# Altium integrated library National Semiconductor Interface.IntLib: 1433 symbols (part 46 of 51)
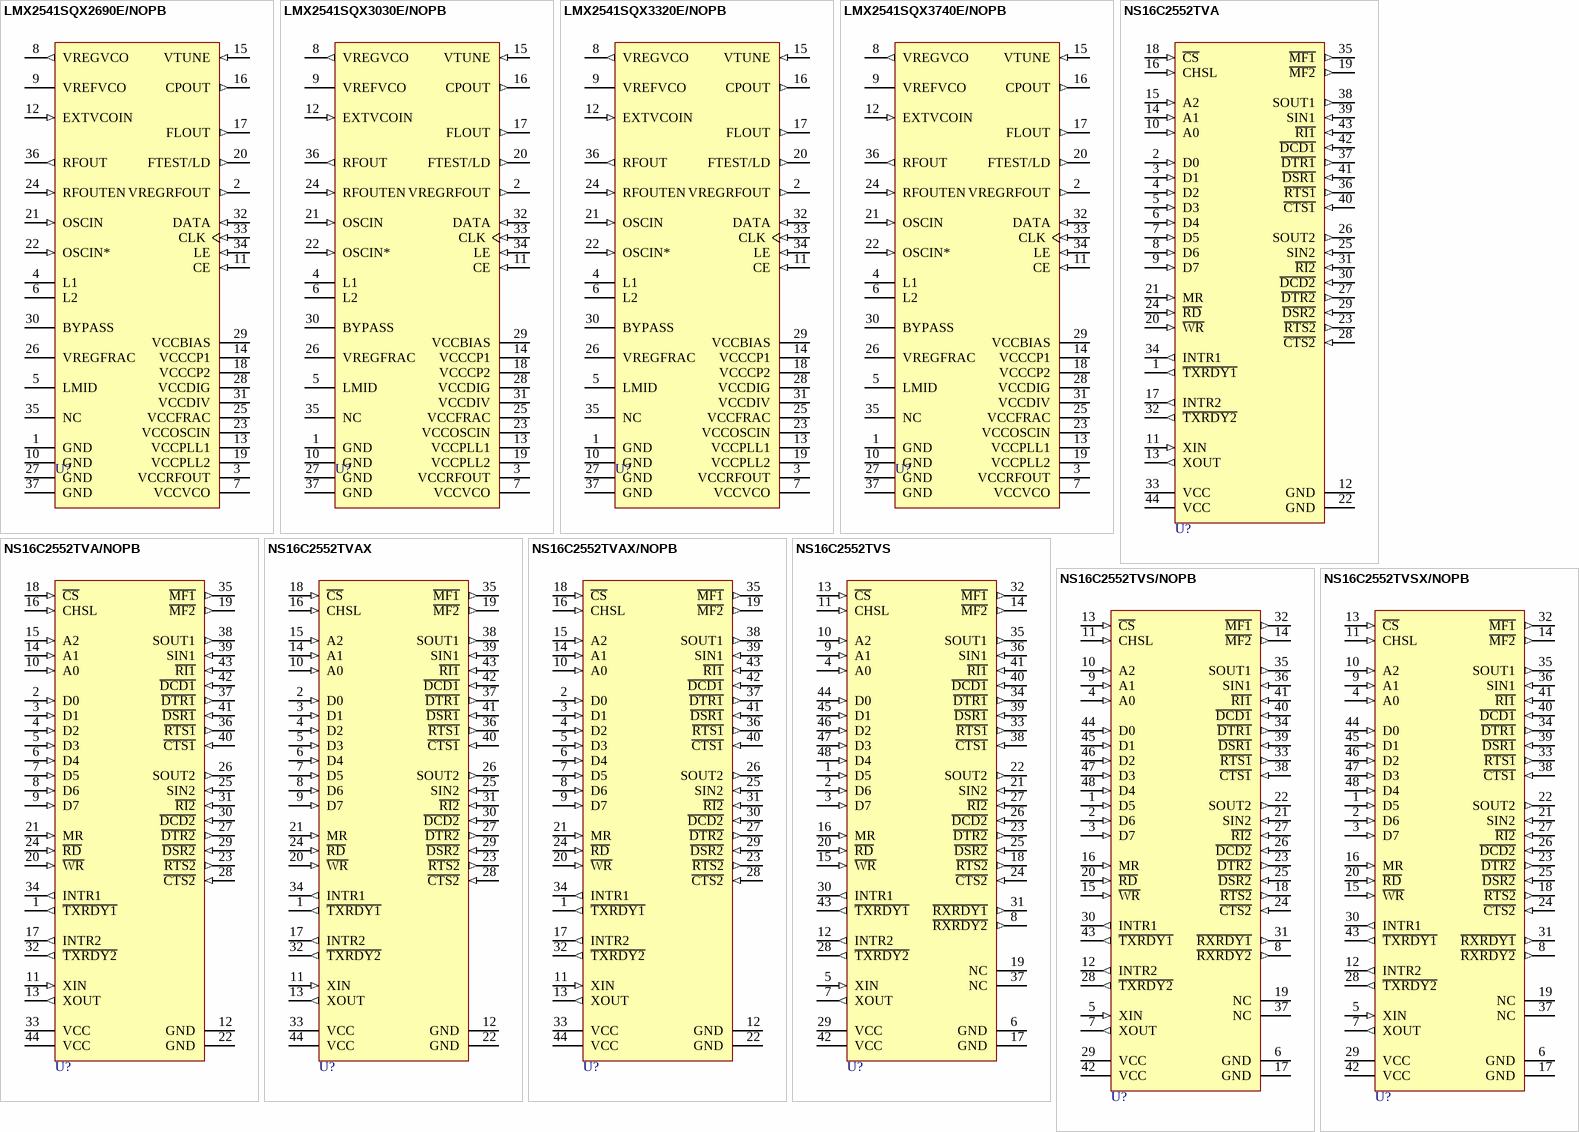
[diagram p169: symbols LMX2541SQX2690E/NOPB to NS16C2552TVSX/NOPB]

## LMX2541SQX3320E/NOPB
designator U?
Ultra-Low Noise PLLatinum Frequency Synthesizer with Integrated VCO, 36-pin LLP, Pb-Free; PartNumber: LMX2541SQX3320E/NOPB; Manufacturer: National Semiconductor; PackageTopMarking: NS*UZXYTTE#*413320E; PowerWise: Y; CompType: Interface IC; DatasheetVersion: Feb-2010; PackageVersion: revA, Jun-2003; PackageReference: SQA36A; PackageDescription: LLP, Plastic, Quad, 6 x 6 x 0.8mm Body, 36 Lead, 0.5mm Pitch, No Pullback; RoHS: Y; PinCount: 36; High-Reliability: Y; ComponentLink1Description: Manufacturer URL; ComponentLink1URL: http://www.national.com/; ComponentLink2Description: LMX2541 Datasheet; ComponentLink2URL: http://www.national.com/ds/LM/LMX2541.pdf; ComponentLink3Description: LMX2541 Web Page; ComponentLink3URL: http://www.national.com/pf/LM/LMX2541.html; ComponentLink4Description: SQA36A Package Page; ComponentLink4URL: http://www.national.com/packaging/folders/sqa36a.html
footprint SQA36A (QFN, 36-Leads, Body 6x6mm, Pitch 0.5mm, Thermal Pad 4.7x4.7mm, NSC Recommended)
pins: 1 GND (power), 2 VREGRFOUT (out), 3 VCCRFOUT (power), 4 L1, 5 LMID, 6 L2, 7 VCCVCO (power), 8 VREGVCO (out), 9 VREFVCO, 10 GND (power), 11 CE (in), 12 EXTVCOIN (in), 13 VCCPLL1, 14 VCCCP1, 15 VTUNE (in), 16 CPOUT (out), 17 FLOUT (out), 18 VCCCP2 (power), 19 VCCPLL2 (power), 20 FTEST/LD (out), 21 OSCIN (in), 22 OSCIN* (in), 23 VCCOSCIN (power), 24 RFOUTEN (in), 25 VCCFRAC (power), 26 VREGFRAC (power), 27 GND (power), 28 VCCDIG (power), 29 VCCBIAS (power), 30 BYPASS, 31 VCCDIV (power), 32 DATA (in), 33 CLK (in), 34 LE (in), 35 NC, 36 RFOUT (out), 37 GND (power)

## LMX2541SQX3740E/NOPB
designator U?
Ultra-Low Noise PLLatinum Frequency Synthesizer with Integrated VCO, 36-pin LLP, Pb-Free; PartNumber: LMX2541SQX3740E/NOPB; Manufacturer: National Semiconductor; PackageTopMarking: NS*UZXYTTE#*413740E; PowerWise: Y; CompType: Interface IC; DatasheetVersion: Feb-2010; PackageVersion: revA, Jun-2003; PackageReference: SQA36A; PackageDescription: LLP, Plastic, Quad, 6 x 6 x 0.8mm Body, 36 Lead, 0.5mm Pitch, No Pullback; RoHS: Y; PinCount: 36; High-Reliability: Y; ComponentLink1Description: Manufacturer URL; ComponentLink1URL: http://www.national.com/; ComponentLink2Description: LMX2541 Datasheet; ComponentLink2URL: http://www.national.com/ds/LM/LMX2541.pdf; ComponentLink3Description: LMX2541 Web Page; ComponentLink3URL: http://www.national.com/pf/LM/LMX2541.html; ComponentLink4Description: SQA36A Package Page; ComponentLink4URL: http://www.national.com/packaging/folders/sqa36a.html
footprint SQA36A (QFN, 36-Leads, Body 6x6mm, Pitch 0.5mm, Thermal Pad 4.7x4.7mm, NSC Recommended)
pins: 1 GND (power), 2 VREGRFOUT (out), 3 VCCRFOUT (power), 4 L1, 5 LMID, 6 L2, 7 VCCVCO (power), 8 VREGVCO (out), 9 VREFVCO, 10 GND (power), 11 CE (in), 12 EXTVCOIN (in), 13 VCCPLL1, 14 VCCCP1, 15 VTUNE (in), 16 CPOUT (out), 17 FLOUT (out), 18 VCCCP2 (power), 19 VCCPLL2 (power), 20 FTEST/LD (out), 21 OSCIN (in), 22 OSCIN* (in), 23 VCCOSCIN (power), 24 RFOUTEN (in), 25 VCCFRAC (power), 26 VREGFRAC (power), 27 GND (power), 28 VCCDIG (power), 29 VCCBIAS (power), 30 BYPASS, 31 VCCDIV (power), 32 DATA (in), 33 CLK (in), 34 LE (in), 35 NC, 36 RFOUT (out), 37 GND (power)

## NS16C2552TVA
designator U?
Dual UART with 16-byte/64-byte FIFO's and up to 5 Mbit/s Data Rate, 44-pin PLCC; PartNumber: NS16C2552TVA; Manufacturer: National Semiconductor; PackageTopMarking: NSUZXYYTTE#*NS16C2552TVA; PowerWise: N; CompType: Interface IC; High-Reliability: Y; DatasheetVersion: Jun-2009; PackageVersion: revK, Dec-1993; PackageReference: V44A; PackageDescription: Plastic Chip Carrier, Sq, .050in Pitch, 44 Lead; RoHS: Y; PinCount: 44; Code_IPC: PLCC-44; ComponentLink1Description: Manufacturer URL; ComponentLink1URL: http://www.national.com/; ComponentLink2Description: NS16C2552 Datasheet; ComponentLink2URL: http://www.national.com/ds/NS/NS16C2552.pdf; ComponentLink3Description: NS16C2552 Web Page; ComponentLink3URL: http://www.national.com/pf/NS/NS16C2552.html; ComponentLink4Description: V44A Package Page; ComponentLink4URL: http://www.national.com/packaging/folders/v44a.html
footprint V44A_N (Leaded Chip Carrier, 44-Leads, Body 16.6x16.6mm, Pitch 1.27mm, IPC Medium Density)
footprint V44A_L (Leaded Chip Carrier, 44-Leads, Body 16.6x16.6mm, Pitch 1.27mm, IPC High Density)
footprint V44A_M (Leaded Chip Carrier, 44-Leads, Body 16.6x16.6mm, Pitch 1.27mm, IPC Low Density)
pins: 1 ~{TXRDY1} (out), 2 D0 (in), 3 D1 (in), 4 D2 (in), 5 D3 (in), 6 D4 (in), 7 D5 (in), 8 D6 (in), 9 D7 (in), 10 A0 (in), 11 XIN (in), 12 GND (power), 13 XOUT (out), 14 A1 (in), 15 A2 (in), 16 CHSL (in), 17 INTR2 (out), 18 ~{CS} (in), 19 ~{MF2} (out), 20 ~{WR} (in), 21 MR (in), 22 GND (power), 23 ~{RTS2} (out), 24 ~{RD} (in), 25 SIN2 (in), 26 SOUT2 (out), 27 ~{DTR2} (out), 28 ~{CTS2} (in), 29 ~{DSR2} (in), 30 ~{DCD2} (in), 31 ~{RI2} (in), 32 ~{TXRDY2} (out), 33 VCC (power), 34 INTR1 (out), 35 ~{MF1} (out), 36 ~{RTS1} (out), 37 ~{DTR1} (out), 38 SOUT1 (out), 39 SIN1 (in), 40 ~{CTS1} (in), 41 ~{DSR1} (in), 42 ~{DCD1} (in), 43 ~{RI1} (in), 44 VCC (power)

## NS16C2552TVA/NOPB
designator U?
Dual UART with 16-byte FIFO and up to 5 Mbit/s Data Rate, 44-pin PLCC, Pb-Free; PartNumber: NS16C2552TVA/NOPB; Manufacturer: National Semiconductor; PackageTopMarking: NSUZXYYTTE#*NS16C2552TVA; PowerWise: N; CompType: Interface IC; High-Reliability: Y; DatasheetVersion: Jun-2009; PackageVersion: revK, Dec-1993; PackageReference: V44A; PackageDescription: Plastic Chip Carrier, Sq, .050in Pitch, 44 Lead; RoHS: Y; PinCount: 44; Code_IPC: PLCC-44; ComponentLink1Description: Manufacturer URL; ComponentLink1URL: http://www.national.com/; ComponentLink2Description: NS16C2552 Datasheet; ComponentLink2URL: http://www.national.com/ds/NS/NS16C2552.pdf; ComponentLink3Description: NS16C2552 Web Page; ComponentLink3URL: http://www.national.com/pf/NS/NS16C2552.html; ComponentLink4Description: V44A Package Page; ComponentLink4URL: http://www.national.com/packaging/folders/v44a.html
footprint V44A_N (Leaded Chip Carrier, 44-Leads, Body 16.6x16.6mm, Pitch 1.27mm, IPC Medium Density)
footprint V44A_L (Leaded Chip Carrier, 44-Leads, Body 16.6x16.6mm, Pitch 1.27mm, IPC High Density)
footprint V44A_M (Leaded Chip Carrier, 44-Leads, Body 16.6x16.6mm, Pitch 1.27mm, IPC Low Density)
pins: 1 ~{TXRDY1} (out), 2 D0 (in), 3 D1 (in), 4 D2 (in), 5 D3 (in), 6 D4 (in), 7 D5 (in), 8 D6 (in), 9 D7 (in), 10 A0 (in), 11 XIN (in), 12 GND (power), 13 XOUT (out), 14 A1 (in), 15 A2 (in), 16 CHSL (in), 17 INTR2 (out), 18 ~{CS} (in), 19 ~{MF2} (out), 20 ~{WR} (in), 21 MR (in), 22 GND (power), 23 ~{RTS2} (out), 24 ~{RD} (in), 25 SIN2 (in), 26 SOUT2 (out), 27 ~{DTR2} (out), 28 ~{CTS2} (in), 29 ~{DSR2} (in), 30 ~{DCD2} (in), 31 ~{RI2} (in), 32 ~{TXRDY2} (out), 33 VCC (power), 34 INTR1 (out), 35 ~{MF1} (out), 36 ~{RTS1} (out), 37 ~{DTR1} (out), 38 SOUT1 (out), 39 SIN1 (in), 40 ~{CTS1} (in), 41 ~{DSR1} (in), 42 ~{DCD1} (in), 43 ~{RI1} (in), 44 VCC (power)

## NS16C2552TVAX
designator U?
Dual UART with 16-byte/64-byte FIFO's and up to 5 Mbit/s Data Rate, 44-pin PLCC; PartNumber: NS16C2552TVAX; Manufacturer: National Semiconductor; PackageTopMarking: NSUZXYYTTE#*NS16C2552TVA*BBBBB; PowerWise: N; CompType: Interface IC; High-Reliability: Y; DatasheetVersion: Jun-2009; PackageVersion: revK, Dec-1993; PackageReference: V44A; PackageDescription: Plastic Chip Carrier, Sq, .050in Pitch, 44 Lead; RoHS: Y; PinCount: 44; Code_IPC: PLCC-44; ComponentLink1Description: Manufacturer URL; ComponentLink1URL: http://www.national.com/; ComponentLink2Description: NS16C2552 Datasheet; ComponentLink2URL: http://www.national.com/ds/NS/NS16C2552.pdf; ComponentLink3Description: NS16C2552 Web Page; ComponentLink3URL: http://www.national.com/pf/NS/NS16C2552.html; ComponentLink4Description: V44A Package Page; ComponentLink4URL: http://www.national.com/packaging/folders/v44a.html
footprint V44A_N (Leaded Chip Carrier, 44-Leads, Body 16.6x16.6mm, Pitch 1.27mm, IPC Medium Density)
footprint V44A_L (Leaded Chip Carrier, 44-Leads, Body 16.6x16.6mm, Pitch 1.27mm, IPC High Density)
footprint V44A_M (Leaded Chip Carrier, 44-Leads, Body 16.6x16.6mm, Pitch 1.27mm, IPC Low Density)
pins: 1 ~{TXRDY1} (out), 2 D0 (in), 3 D1 (in), 4 D2 (in), 5 D3 (in), 6 D4 (in), 7 D5 (in), 8 D6 (in), 9 D7 (in), 10 A0 (in), 11 XIN (in), 12 GND (power), 13 XOUT (out), 14 A1 (in), 15 A2 (in), 16 CHSL (in), 17 INTR2 (out), 18 ~{CS} (in), 19 ~{MF2} (out), 20 ~{WR} (in), 21 MR (in), 22 GND (power), 23 ~{RTS2} (out), 24 ~{RD} (in), 25 SIN2 (in), 26 SOUT2 (out), 27 ~{DTR2} (out), 28 ~{CTS2} (in), 29 ~{DSR2} (in), 30 ~{DCD2} (in), 31 ~{RI2} (in), 32 ~{TXRDY2} (out), 33 VCC (power), 34 INTR1 (out), 35 ~{MF1} (out), 36 ~{RTS1} (out), 37 ~{DTR1} (out), 38 SOUT1 (out), 39 SIN1 (in), 40 ~{CTS1} (in), 41 ~{DSR1} (in), 42 ~{DCD1} (in), 43 ~{RI1} (in), 44 VCC (power)

## NS16C2552TVAX/NOPB
designator U?
Dual UART with 16-byte FIFO and up to 5 Mbit/s Data Rate, 44-pin PLCC, Pb-Free; PartNumber: NS16C2552TVAX/NOPB; Manufacturer: National Semiconductor; PackageTopMarking: NSUZXYYTTE#*NS16C2552TVA*BBBBB; PowerWise: N; CompType: Interface IC; High-Reliability: Y; DatasheetVersion: Jun-2009; PackageVersion: revK, Dec-1993; PackageReference: V44A; PackageDescription: Plastic Chip Carrier, Sq, .050in Pitch, 44 Lead; RoHS: Y; PinCount: 44; Code_IPC: PLCC-44; ComponentLink1Description: Manufacturer URL; ComponentLink1URL: http://www.national.com/; ComponentLink2Description: NS16C2552 Datasheet; ComponentLink2URL: http://www.national.com/ds/NS/NS16C2552.pdf; ComponentLink3Description: NS16C2552 Web Page; ComponentLink3URL: http://www.national.com/pf/NS/NS16C2552.html; ComponentLink4Description: V44A Package Page; ComponentLink4URL: http://www.national.com/packaging/folders/v44a.html
footprint V44A_N (Leaded Chip Carrier, 44-Leads, Body 16.6x16.6mm, Pitch 1.27mm, IPC Medium Density)
footprint V44A_L (Leaded Chip Carrier, 44-Leads, Body 16.6x16.6mm, Pitch 1.27mm, IPC High Density)
footprint V44A_M (Leaded Chip Carrier, 44-Leads, Body 16.6x16.6mm, Pitch 1.27mm, IPC Low Density)
pins: 1 ~{TXRDY1} (out), 2 D0 (in), 3 D1 (in), 4 D2 (in), 5 D3 (in), 6 D4 (in), 7 D5 (in), 8 D6 (in), 9 D7 (in), 10 A0 (in), 11 XIN (in), 12 GND (power), 13 XOUT (out), 14 A1 (in), 15 A2 (in), 16 CHSL (in), 17 INTR2 (out), 18 ~{CS} (in), 19 ~{MF2} (out), 20 ~{WR} (in), 21 MR (in), 22 GND (power), 23 ~{RTS2} (out), 24 ~{RD} (in), 25 SIN2 (in), 26 SOUT2 (out), 27 ~{DTR2} (out), 28 ~{CTS2} (in), 29 ~{DSR2} (in), 30 ~{DCD2} (in), 31 ~{RI2} (in), 32 ~{TXRDY2} (out), 33 VCC (power), 34 INTR1 (out), 35 ~{MF1} (out), 36 ~{RTS1} (out), 37 ~{DTR1} (out), 38 SOUT1 (out), 39 SIN1 (in), 40 ~{CTS1} (in), 41 ~{DSR1} (in), 42 ~{DCD1} (in), 43 ~{RI1} (in), 44 VCC (power)

## NS16C2552TVS
designator U?
Dual UART with 16-byte/64-byte FIFO's and up to 5 Mbit/s Data Rate, 48-pin TQFP; PartNumber: NS16C2552TVS; Manufacturer: National Semiconductor; PackageTopMarking: NSUZXYTT*NS16C2*552TVS; PowerWise: N; CompType: Interface IC; High-Reliability: Y; DatasheetVersion: Jun-2009; PackageVersion: revA, Apr-2000; PackageReference: VBC48A; PackageDescription: TQFP, Jedec Metric, 7 x 7 x 1mm, 48 Lead, 0.5mm Pitch; RoHS: N; PinCount: 48; Code_JEDEC: MS-026-ABC; ComponentLink1Description: Manufacturer URL; ComponentLink1URL: http://www.national.com/; ComponentLink2Description: NS16C2552 Datasheet; ComponentLink2URL: http://www.national.com/ds/NS/NS16C2552.pdf; ComponentLink3Description: NS16C2552 Web Page; ComponentLink3URL: http://www.national.com/pf/NS/NS16C2552.html; ComponentLink4Description: VBC48A Package Page; ComponentLink4URL: http://www.national.com/packaging/folders/vbc48a.html
footprint VBC48A_N (Thin QFP, 48-Leads, Body 7x7mm, Pitch 0.5mm, IPC Medium Density)
footprint VBC48A_L (Thin QFP, 48-Leads, Body 7x7mm, Pitch 0.5mm, IPC High Density)
footprint VBC48A_M (Thin QFP, 48-Leads, Body 7x7mm, Pitch 0.5mm, IPC Low Density)
pins: 1 D5 (in), 2 D6 (in), 3 D7 (in), 4 A0 (in), 5 XIN (in), 6 GND (power), 7 XOUT (out), 8 ~{RXRDY2} (out), 9 A1 (in), 10 A2 (in), 11 CHSL (in), 12 INTR2 (out), 13 ~{CS} (in), 14 ~{MF2} (out), 15 ~{WR} (in), 16 MR (in), 17 GND (power), 18 ~{RTS2} (out), 19 NC, 20 ~{RD} (in), 21 SIN2 (in), 22 SOUT2 (out), 23 ~{DTR2} (out), 24 ~{CTS2} (in), 25 ~{DSR2} (in), 26 ~{DCD2} (in), 27 ~{RI2} (in), 28 ~{TXRDY2} (out), 29 VCC (power), 30 INTR1 (out), 31 ~{RXRDY1} (out), 32 ~{MF1} (out), 33 ~{RTS1} (out), 34 ~{DTR1} (out), 35 SOUT1 (out), 36 SIN1 (in), 37 NC, 38 ~{CTS1} (in), 39 ~{DSR1} (in), 40 ~{DCD1} (in), 41 ~{RI1} (in), 42 VCC (power), 43 ~{TXRDY1} (out), 44 D0 (in), 45 D1 (in), 46 D2 (in), 47 D3 (in), 48 D4 (in)

## NS16C2552TVS/NOPB
designator U?
Dual UART with 16-byte FIFO and up to 5 Mbit/s Data Rate, 48-pin TQFP, Pb-Free; PartNumber: NS16C2552TVS/NOPB; Manufacturer: National Semiconductor; PackageTopMarking: NSUZXYTT*NS16C2*552TVS; PowerWise: N; CompType: Interface IC; High-Reliability: Y; DatasheetVersion: Jun-2009; PackageVersion: revA, Apr-2000; PackageReference: VBC48A; PackageDescription: TQFP, Jedec Metric, 7 x 7 x 1mm, 48 Lead, 0.5mm Pitch; RoHS: Y; PinCount: 48; Code_JEDEC: MS-026-ABC; ComponentLink1Description: Manufacturer URL; ComponentLink1URL: http://www.national.com/; ComponentLink2Description: NS16C2552 Datasheet; ComponentLink2URL: http://www.national.com/ds/NS/NS16C2552.pdf; ComponentLink3Description: NS16C2552 Web Page; ComponentLink3URL: http://www.national.com/pf/NS/NS16C2552.html; ComponentLink4Description: VBC48A Package Page; ComponentLink4URL: http://www.national.com/packaging/folders/vbc48a.html
footprint VBC48A_N (Thin QFP, 48-Leads, Body 7x7mm, Pitch 0.5mm, IPC Medium Density)
footprint VBC48A_L (Thin QFP, 48-Leads, Body 7x7mm, Pitch 0.5mm, IPC High Density)
footprint VBC48A_M (Thin QFP, 48-Leads, Body 7x7mm, Pitch 0.5mm, IPC Low Density)
pins: 1 D5 (in), 2 D6 (in), 3 D7 (in), 4 A0 (in), 5 XIN (in), 6 GND (power), 7 XOUT (out), 8 ~{RXRDY2} (out), 9 A1 (in), 10 A2 (in), 11 CHSL (in), 12 INTR2 (out), 13 ~{CS} (in), 14 ~{MF2} (out), 15 ~{WR} (in), 16 MR (in), 17 GND (power), 18 ~{RTS2} (out), 19 NC, 20 ~{RD} (in), 21 SIN2 (in), 22 SOUT2 (out), 23 ~{DTR2} (out), 24 ~{CTS2} (in), 25 ~{DSR2} (in), 26 ~{DCD2} (in), 27 ~{RI2} (in), 28 ~{TXRDY2} (out), 29 VCC (power), 30 INTR1 (out), 31 ~{RXRDY1} (out), 32 ~{MF1} (out), 33 ~{RTS1} (out), 34 ~{DTR1} (out), 35 SOUT1 (out), 36 SIN1 (in), 37 NC, 38 ~{CTS1} (in), 39 ~{DSR1} (in), 40 ~{DCD1} (in), 41 ~{RI1} (in), 42 VCC (power), 43 ~{TXRDY1} (out), 44 D0 (in), 45 D1 (in), 46 D2 (in), 47 D3 (in), 48 D4 (in)

## NS16C2552TVSX/NOPB
designator U?
Dual UART with 16-byte FIFO and up to 5 Mbit/s Data Rate, 48-pin TQFP, Pb-Free; PartNumber: NS16C2552TVSX/NOPB; Manufacturer: National Semiconductor; PackageTopMarking: NSUZXYTT*NS16C2*552TVS; PowerWise: N; CompType: Interface IC; High-Reliability: Y; DatasheetVersion: Jun-2009; PackageVersion: revA, Apr-2000; PackageReference: VBC48A; PackageDescription: TQFP, Jedec Metric, 7 x 7 x 1mm, 48 Lead, 0.5mm Pitch; RoHS: Y; PinCount: 48; Code_JEDEC: MS-026-ABC; ComponentLink1Description: Manufacturer URL; ComponentLink1URL: http://www.national.com/; ComponentLink2Description: NS16C2552 Datasheet; ComponentLink2URL: http://www.national.com/ds/NS/NS16C2552.pdf; ComponentLink3Description: NS16C2552 Web Page; ComponentLink3URL: http://www.national.com/pf/NS/NS16C2552.html; ComponentLink4Description: VBC48A Package Page; ComponentLink4URL: http://www.national.com/packaging/folders/vbc48a.html
footprint VBC48A_N (Thin QFP, 48-Leads, Body 7x7mm, Pitch 0.5mm, IPC Medium Density)
footprint VBC48A_L (Thin QFP, 48-Leads, Body 7x7mm, Pitch 0.5mm, IPC High Density)
footprint VBC48A_M (Thin QFP, 48-Leads, Body 7x7mm, Pitch 0.5mm, IPC Low Density)
pins: 1 D5 (in), 2 D6 (in), 3 D7 (in), 4 A0 (in), 5 XIN (in), 6 GND (power), 7 XOUT (out), 8 ~{RXRDY2} (out), 9 A1 (in), 10 A2 (in), 11 CHSL (in), 12 INTR2 (out), 13 ~{CS} (in), 14 ~{MF2} (out), 15 ~{WR} (in), 16 MR (in), 17 GND (power), 18 ~{RTS2} (out), 19 NC, 20 ~{RD} (in), 21 SIN2 (in), 22 SOUT2 (out), 23 ~{DTR2} (out), 24 ~{CTS2} (in), 25 ~{DSR2} (in), 26 ~{DCD2} (in), 27 ~{RI2} (in), 28 ~{TXRDY2} (out), 29 VCC (power), 30 INTR1 (out), 31 ~{RXRDY1} (out), 32 ~{MF1} (out), 33 ~{RTS1} (out), 34 ~{DTR1} (out), 35 SOUT1 (out), 36 SIN1 (in), 37 NC, 38 ~{CTS1} (in), 39 ~{DSR1} (in), 40 ~{DCD1} (in), 41 ~{RI1} (in), 42 VCC (power), 43 ~{TXRDY1} (out), 44 D0 (in), 45 D1 (in), 46 D2 (in), 47 D3 (in), 48 D4 (in)

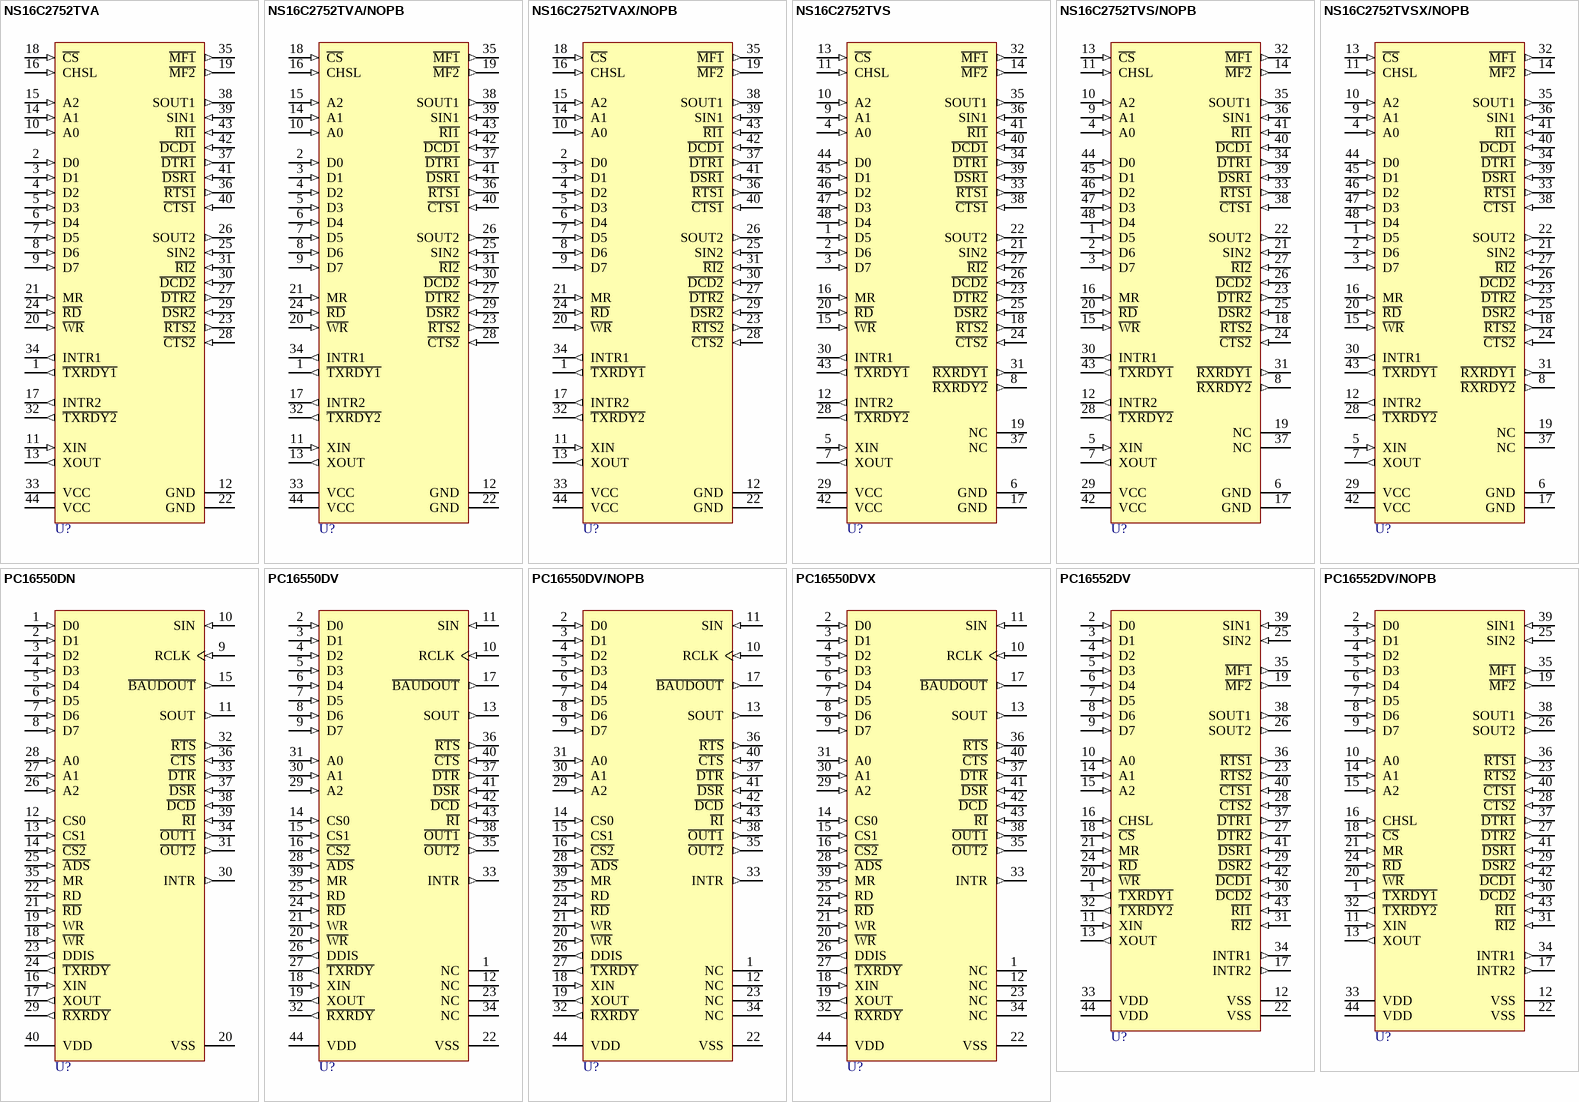
[diagram p111: symbols NS16C2752TVA to PC16552DV/NOPB]

## NS16C2752TVA
designator U?
Dual UART with 16-byte/64-byte FIFO's and up to 5 Mbit/s Data Rate, 44-pin PLCC; PartNumber: NS16C2752TVA; Manufacturer: National Semiconductor; PackageTopMarking: NSUZXYYTTE#*NS16C2752TVA*BBBBB; PowerWise: N; CompType: Interface IC; High-Reliability: Y; DatasheetVersion: Jun-2009; PackageVersion: revK, Dec-1993; PackageReference: V44A; PackageDescription: Plastic Chip Carrier, Sq, .050in Pitch, 44 Lead; RoHS: Y; PinCount: 44; Code_IPC: PLCC-44; ComponentLink1Description: Manufacturer URL; ComponentLink1URL: http://www.national.com/; ComponentLink2Description: NS16C2752 Datasheet; ComponentLink2URL: http://www.national.com/ds/NS/NS16C2552.pdf; ComponentLink3Description: NS16C2752 Web Page; ComponentLink3URL: http://www.national.com/pf/NS/NS16C2752.html; ComponentLink4Description: V44A Package Page; ComponentLink4URL: http://www.national.com/packaging/folders/v44a.html
footprint V44A_N (Leaded Chip Carrier, 44-Leads, Body 16.6x16.6mm, Pitch 1.27mm, IPC Medium Density)
footprint V44A_L (Leaded Chip Carrier, 44-Leads, Body 16.6x16.6mm, Pitch 1.27mm, IPC High Density)
footprint V44A_M (Leaded Chip Carrier, 44-Leads, Body 16.6x16.6mm, Pitch 1.27mm, IPC Low Density)
pins: 1 ~{TXRDY1} (out), 2 D0 (in), 3 D1 (in), 4 D2 (in), 5 D3 (in), 6 D4 (in), 7 D5 (in), 8 D6 (in), 9 D7 (in), 10 A0 (in), 11 XIN (in), 12 GND (power), 13 XOUT (out), 14 A1 (in), 15 A2 (in), 16 CHSL (in), 17 INTR2 (out), 18 ~{CS} (in), 19 ~{MF2} (out), 20 ~{WR} (in), 21 MR (in), 22 GND (power), 23 ~{RTS2} (out), 24 ~{RD} (in), 25 SIN2 (in), 26 SOUT2 (out), 27 ~{DTR2} (out), 28 ~{CTS2} (in), 29 ~{DSR2} (in), 30 ~{DCD2} (in), 31 ~{RI2} (in), 32 ~{TXRDY2} (out), 33 VCC (power), 34 INTR1 (out), 35 ~{MF1} (out), 36 ~{RTS1} (out), 37 ~{DTR1} (out), 38 SOUT1 (out), 39 SIN1 (in), 40 ~{CTS1} (in), 41 ~{DSR1} (in), 42 ~{DCD1} (in), 43 ~{RI1} (in), 44 VCC (power)

## NS16C2752TVA/NOPB
designator U?
Dual UART with 64-byte FIFO and up to 5 Mbit/s Data Rate, 44-pin PLCC, Pb-Free; PartNumber: NS16C2752TVA/NOPB; Manufacturer: National Semiconductor; PackageTopMarking: NSUZXYYTTE#*NS16C2752TVA*BBBBB; PowerWise: N; CompType: Interface IC; High-Reliability: Y; DatasheetVersion: Jun-2009; PackageVersion: revK, Dec-1993; PackageReference: V44A; PackageDescription: Plastic Chip Carrier, Sq, .050in Pitch, 44 Lead; RoHS: Y; PinCount: 44; Code_IPC: PLCC-44; ComponentLink1Description: Manufacturer URL; ComponentLink1URL: http://www.national.com/; ComponentLink2Description: NS16C2752 Datasheet; ComponentLink2URL: http://www.national.com/ds/NS/NS16C2752.pdf; ComponentLink3Description: NS16C2752 Web Page; ComponentLink3URL: http://www.national.com/pf/NS/NS16C2752.html; ComponentLink4Description: V44A Package Page; ComponentLink4URL: http://www.national.com/packaging/folders/v44a.html
footprint V44A_N (Leaded Chip Carrier, 44-Leads, Body 16.6x16.6mm, Pitch 1.27mm, IPC Medium Density)
footprint V44A_L (Leaded Chip Carrier, 44-Leads, Body 16.6x16.6mm, Pitch 1.27mm, IPC High Density)
footprint V44A_M (Leaded Chip Carrier, 44-Leads, Body 16.6x16.6mm, Pitch 1.27mm, IPC Low Density)
pins: 1 ~{TXRDY1} (out), 2 D0 (in), 3 D1 (in), 4 D2 (in), 5 D3 (in), 6 D4 (in), 7 D5 (in), 8 D6 (in), 9 D7 (in), 10 A0 (in), 11 XIN (in), 12 GND (power), 13 XOUT (out), 14 A1 (in), 15 A2 (in), 16 CHSL (in), 17 INTR2 (out), 18 ~{CS} (in), 19 ~{MF2} (out), 20 ~{WR} (in), 21 MR (in), 22 GND (power), 23 ~{RTS2} (out), 24 ~{RD} (in), 25 SIN2 (in), 26 SOUT2 (out), 27 ~{DTR2} (out), 28 ~{CTS2} (in), 29 ~{DSR2} (in), 30 ~{DCD2} (in), 31 ~{RI2} (in), 32 ~{TXRDY2} (out), 33 VCC (power), 34 INTR1 (out), 35 ~{MF1} (out), 36 ~{RTS1} (out), 37 ~{DTR1} (out), 38 SOUT1 (out), 39 SIN1 (in), 40 ~{CTS1} (in), 41 ~{DSR1} (in), 42 ~{DCD1} (in), 43 ~{RI1} (in), 44 VCC (power)

## NS16C2752TVAX/NOPB
designator U?
Dual UART with 64-byte FIFO and up to 5 Mbit/s Data Rate, 44-pin PLCC, Pb-Free; PartNumber: NS16C2752TVAX/NOPB; Manufacturer: National Semiconductor; PackageTopMarking: NSUZXYYTTE#*NS16C2752TVA*BBBBB; PowerWise: N; CompType: Interface IC; High-Reliability: Y; DatasheetVersion: Jun-2009; PackageVersion: revK, Dec-1993; PackageReference: V44A; PackageDescription: Plastic Chip Carrier, Sq, .050in Pitch, 44 Lead; RoHS: Y; PinCount: 44; Code_IPC: PLCC-44; ComponentLink1Description: Manufacturer URL; ComponentLink1URL: http://www.national.com/; ComponentLink2Description: NS16C2752 Datasheet; ComponentLink2URL: http://www.national.com/ds/NS/NS16C2752.pdf; ComponentLink3Description: NS16C2752 Web Page; ComponentLink3URL: http://www.national.com/pf/NS/NS16C2752.html; ComponentLink4Description: V44A Package Page; ComponentLink4URL: http://www.national.com/packaging/folders/v44a.html
footprint V44A_N (Leaded Chip Carrier, 44-Leads, Body 16.6x16.6mm, Pitch 1.27mm, IPC Medium Density)
footprint V44A_L (Leaded Chip Carrier, 44-Leads, Body 16.6x16.6mm, Pitch 1.27mm, IPC High Density)
footprint V44A_M (Leaded Chip Carrier, 44-Leads, Body 16.6x16.6mm, Pitch 1.27mm, IPC Low Density)
pins: 1 ~{TXRDY1} (out), 2 D0 (in), 3 D1 (in), 4 D2 (in), 5 D3 (in), 6 D4 (in), 7 D5 (in), 8 D6 (in), 9 D7 (in), 10 A0 (in), 11 XIN (in), 12 GND (power), 13 XOUT (out), 14 A1 (in), 15 A2 (in), 16 CHSL (in), 17 INTR2 (out), 18 ~{CS} (in), 19 ~{MF2} (out), 20 ~{WR} (in), 21 MR (in), 22 GND (power), 23 ~{RTS2} (out), 24 ~{RD} (in), 25 SIN2 (in), 26 SOUT2 (out), 27 ~{DTR2} (out), 28 ~{CTS2} (in), 29 ~{DSR2} (in), 30 ~{DCD2} (in), 31 ~{RI2} (in), 32 ~{TXRDY2} (out), 33 VCC (power), 34 INTR1 (out), 35 ~{MF1} (out), 36 ~{RTS1} (out), 37 ~{DTR1} (out), 38 SOUT1 (out), 39 SIN1 (in), 40 ~{CTS1} (in), 41 ~{DSR1} (in), 42 ~{DCD1} (in), 43 ~{RI1} (in), 44 VCC (power)

## NS16C2752TVS
designator U?
Dual UART with 16-byte/64-byte FIFO's and up to 5 Mbit/s Data Rate, 48-pin TQFP; PartNumber: NS16C2752TVS; Manufacturer: National Semiconductor; PackageTopMarking: NSUZXYTT*NS16C2*752TVS; PowerWise: N; CompType: Interface IC; High-Reliability: Y; DatasheetVersion: Jun-2009; PackageVersion: revA, Apr-2000; PackageReference: VBC48A; PackageDescription: TQFP, Jedec Metric, 7 x 7 x 1mm, 48 Lead, 0.5mm Pitch; RoHS: N; PinCount: 48; Code_JEDEC: MS-026-ABC; ComponentLink1Description: Manufacturer URL; ComponentLink1URL: http://www.national.com/; ComponentLink2Description: NS16C2752 Datasheet; ComponentLink2URL: http://www.national.com/ds/NS/NS16C2752.pdf; ComponentLink3Description: NS16C2752 Web Page; ComponentLink3URL: http://www.national.com/pf/NS/NS16C2752.html; ComponentLink4Description: VBC48A Package Page; ComponentLink4URL: http://www.national.com/packaging/folders/vbc48a.html
footprint VBC48A_N (Thin QFP, 48-Leads, Body 7x7mm, Pitch 0.5mm, IPC Medium Density)
footprint VBC48A_L (Thin QFP, 48-Leads, Body 7x7mm, Pitch 0.5mm, IPC High Density)
footprint VBC48A_M (Thin QFP, 48-Leads, Body 7x7mm, Pitch 0.5mm, IPC Low Density)
pins: 1 D5 (in), 2 D6 (in), 3 D7 (in), 4 A0 (in), 5 XIN (in), 6 GND (power), 7 XOUT (out), 8 ~{RXRDY2} (out), 9 A1 (in), 10 A2 (in), 11 CHSL (in), 12 INTR2 (out), 13 ~{CS} (in), 14 ~{MF2} (out), 15 ~{WR} (in), 16 MR (in), 17 GND (power), 18 ~{RTS2} (out), 19 NC, 20 ~{RD} (in), 21 SIN2 (in), 22 SOUT2 (out), 23 ~{DTR2} (out), 24 ~{CTS2} (in), 25 ~{DSR2} (in), 26 ~{DCD2} (in), 27 ~{RI2} (in), 28 ~{TXRDY2} (out), 29 VCC (power), 30 INTR1 (out), 31 ~{RXRDY1} (out), 32 ~{MF1} (out), 33 ~{RTS1} (out), 34 ~{DTR1} (out), 35 SOUT1 (out), 36 SIN1 (in), 37 NC, 38 ~{CTS1} (in), 39 ~{DSR1} (in), 40 ~{DCD1} (in), 41 ~{RI1} (in), 42 VCC (power), 43 ~{TXRDY1} (out), 44 D0 (in), 45 D1 (in), 46 D2 (in), 47 D3 (in), 48 D4 (in)

## NS16C2752TVS/NOPB
designator U?
Dual UART with 64-byte FIFO and up to 5 Mbit/s Data Rate, 48-pin TQFP, Pb-Free; PartNumber: NS16C2752TVS/NOPB; Manufacturer: National Semiconductor; PackageTopMarking: NSUZXYTT*NS16C2*752TVS; PowerWise: N; CompType: Interface IC; High-Reliability: Y; DatasheetVersion: Jun-2009; PackageVersion: revA, Apr-2000; PackageReference: VBC48A; PackageDescription: TQFP, Jedec Metric, 7 x 7 x 1mm, 48 Lead, 0.5mm Pitch; RoHS: Y; PinCount: 48; Code_JEDEC: MS-026-ABC; ComponentLink1Description: Manufacturer URL; ComponentLink1URL: http://www.national.com/; ComponentLink2Description: NS16C2752 Datasheet; ComponentLink2URL: http://www.national.com/ds/NS/NS16C2752.pdf; ComponentLink3Description: NS16C2752 Web Page; ComponentLink3URL: http://www.national.com/pf/NS/NS16C2752.html; ComponentLink4Description: VBC48A Package Page; ComponentLink4URL: http://www.national.com/packaging/folders/vbc48a.html
footprint VBC48A_N (Thin QFP, 48-Leads, Body 7x7mm, Pitch 0.5mm, IPC Medium Density)
footprint VBC48A_L (Thin QFP, 48-Leads, Body 7x7mm, Pitch 0.5mm, IPC High Density)
footprint VBC48A_M (Thin QFP, 48-Leads, Body 7x7mm, Pitch 0.5mm, IPC Low Density)
pins: 1 D5 (in), 2 D6 (in), 3 D7 (in), 4 A0 (in), 5 XIN (in), 6 GND (power), 7 XOUT (out), 8 ~{RXRDY2} (out), 9 A1 (in), 10 A2 (in), 11 CHSL (in), 12 INTR2 (out), 13 ~{CS} (in), 14 ~{MF2} (out), 15 ~{WR} (in), 16 MR (in), 17 GND (power), 18 ~{RTS2} (out), 19 NC, 20 ~{RD} (in), 21 SIN2 (in), 22 SOUT2 (out), 23 ~{DTR2} (out), 24 ~{CTS2} (in), 25 ~{DSR2} (in), 26 ~{DCD2} (in), 27 ~{RI2} (in), 28 ~{TXRDY2} (out), 29 VCC (power), 30 INTR1 (out), 31 ~{RXRDY1} (out), 32 ~{MF1} (out), 33 ~{RTS1} (out), 34 ~{DTR1} (out), 35 SOUT1 (out), 36 SIN1 (in), 37 NC, 38 ~{CTS1} (in), 39 ~{DSR1} (in), 40 ~{DCD1} (in), 41 ~{RI1} (in), 42 VCC (power), 43 ~{TXRDY1} (out), 44 D0 (in), 45 D1 (in), 46 D2 (in), 47 D3 (in), 48 D4 (in)

## NS16C2752TVSX/NOPB
designator U?
Dual UART with 64-byte FIFO and up to 5 Mbit/s Data Rate, 48-pin TQFP, Pb-Free; PartNumber: NS16C2752TVSX/NOPB; Manufacturer: National Semiconductor; PackageTopMarking: NSUZXYTT*NS16C2*752TVS; PowerWise: N; CompType: Interface IC; High-Reliability: Y; DatasheetVersion: Jun-2009; PackageVersion: revA, Apr-2000; PackageReference: VBC48A; PackageDescription: TQFP, Jedec Metric, 7 x 7 x 1mm, 48 Lead, 0.5mm Pitch; RoHS: Y; PinCount: 48; Code_JEDEC: MS-026-ABC; ComponentLink1Description: Manufacturer URL; ComponentLink1URL: http://www.national.com/; ComponentLink2Description: NS16C2752 Datasheet; ComponentLink2URL: http://www.national.com/ds/NS/NS16C2752.pdf; ComponentLink3Description: NS16C2752 Web Page; ComponentLink3URL: http://www.national.com/pf/NS/NS16C2752.html; ComponentLink4Description: VBC48A Package Page; ComponentLink4URL: http://www.national.com/packaging/folders/vbc48a.html
footprint VBC48A_N (Thin QFP, 48-Leads, Body 7x7mm, Pitch 0.5mm, IPC Medium Density)
footprint VBC48A_L (Thin QFP, 48-Leads, Body 7x7mm, Pitch 0.5mm, IPC High Density)
footprint VBC48A_M (Thin QFP, 48-Leads, Body 7x7mm, Pitch 0.5mm, IPC Low Density)
pins: 1 D5 (in), 2 D6 (in), 3 D7 (in), 4 A0 (in), 5 XIN (in), 6 GND (power), 7 XOUT (out), 8 ~{RXRDY2} (out), 9 A1 (in), 10 A2 (in), 11 CHSL (in), 12 INTR2 (out), 13 ~{CS} (in), 14 ~{MF2} (out), 15 ~{WR} (in), 16 MR (in), 17 GND (power), 18 ~{RTS2} (out), 19 NC, 20 ~{RD} (in), 21 SIN2 (in), 22 SOUT2 (out), 23 ~{DTR2} (out), 24 ~{CTS2} (in), 25 ~{DSR2} (in), 26 ~{DCD2} (in), 27 ~{RI2} (in), 28 ~{TXRDY2} (out), 29 VCC (power), 30 INTR1 (out), 31 ~{RXRDY1} (out), 32 ~{MF1} (out), 33 ~{RTS1} (out), 34 ~{DTR1} (out), 35 SOUT1 (out), 36 SIN1 (in), 37 NC, 38 ~{CTS1} (in), 39 ~{DSR1} (in), 40 ~{DCD1} (in), 41 ~{RI1} (in), 42 VCC (power), 43 ~{TXRDY1} (out), 44 D0 (in), 45 D1 (in), 46 D2 (in), 47 D3 (in), 48 D4 (in)

## PC16550DN
designator U?
Universal Asynchronous Receiver/Transmitter with FIFO's, 40-pin MDIP; PartNumber: PC16550DN; Manufacturer: National Semiconductor; PackageTopMarking: NSUZXYYTTE#*PC16550DN*PATENTED; PowerWise: N; CompType: Interface IC; High-Reliability: Y; DatasheetVersion: Jun-1995; PackageVersion: revE, Nov-1983; PackageReference: N40A; PackageDescription: 40 Lead Molded Dip (N); RoHS: N; PinCount: 40; ComponentLink1Description: Manufacturer URL; ComponentLink1URL: http://www.national.com/; ComponentLink2Description: PC16550D Datasheet; ComponentLink2URL: http://www.national.com/ds/PC/PC16550D.pdf; ComponentLink3Description: PC16550D Web Page; ComponentLink3URL: http://www.national.com/pf/PC/PC16550D.html; ComponentLink4Description: N40A Package Page; ComponentLink4URL: http://www.national.com/packaging/folders/n40a.html
footprint N40A (DIP, 40-Leads, Row Spacing 15.24mm, Pitch 2.54mm, Body 52.24x13.97mm)
pins: 1 D0 (in), 2 D1 (in), 3 D2 (in), 4 D3 (in), 5 D4 (in), 6 D5 (in), 7 D6 (in), 8 D7 (in), 9 RCLK (in), 10 SIN (in), 11 SOUT (out), 12 CS0 (in), 13 CS1 (in), 14 ~{CS2} (in), 15 ~{BAUDOUT} (out), 16 XIN (in), 17 XOUT (out), 18 ~{WR} (in), 19 WR (in), 20 VSS (power), 21 ~{RD} (in), 22 RD (in), 23 DDIS (out), 24 ~{TXRDY} (out), 25 ~{ADS} (in), 26 A2 (in), 27 A1 (in), 28 A0 (in), 29 ~{RXRDY} (out), 30 INTR (out), 31 ~{OUT2} (out), 32 ~{RTS} (out), 33 ~{DTR} (out), 34 ~{OUT1} (out), 35 MR (in), 36 ~{CTS} (in), 37 ~{DSR} (in), 38 ~{DCD} (in), 39 ~{RI} (in), 40 VDD (power)

## PC16550DV
designator U?
Universal Asynchronous Receiver/Transmitter with FIFO's, 44-pin PLCC; PartNumber: PC16550DV; Manufacturer: National Semiconductor; PackageTopMarking: NSUZXYYTTE#*PC16550DV*PATENTED; PowerWise: N; CompType: Interface IC; High-Reliability: Y; DatasheetVersion: Jun-1995; PackageVersion: revK, Dec-1993; PackageReference: V44A; PackageDescription: Plastic Chip Carrier, Sq, .050in Pitch, 44 Lead; RoHS: N; PinCount: 44; Code_IPC: PLCC-44; ComponentLink1Description: Manufacturer URL; ComponentLink1URL: http://www.national.com/; ComponentLink2Description: PC16550D Datasheet; ComponentLink2URL: http://www.national.com/ds/PC/PC16550D.pdf; ComponentLink3Description: PC16550D Web Page; ComponentLink3URL: http://www.national.com/pf/PC/PC16550D.html; ComponentLink4Description: V44A Package Page; ComponentLink4URL: http://www.national.com/packaging/folders/v44a.html
footprint V44A_N (Leaded Chip Carrier, 44-Leads, Body 16.6x16.6mm, Pitch 1.27mm, IPC Medium Density)
footprint V44A_L (Leaded Chip Carrier, 44-Leads, Body 16.6x16.6mm, Pitch 1.27mm, IPC High Density)
footprint V44A_M (Leaded Chip Carrier, 44-Leads, Body 16.6x16.6mm, Pitch 1.27mm, IPC Low Density)
pins: 1 NC, 2 D0 (in), 3 D1 (in), 4 D2 (in), 5 D3 (in), 6 D4 (in), 7 D5 (in), 8 D6 (in), 9 D7 (in), 10 RCLK (in), 11 SIN (in), 12 NC, 13 SOUT (out), 14 CS0 (in), 15 CS1 (in), 16 ~{CS2} (in), 17 ~{BAUDOUT} (out), 18 XIN (in), 19 XOUT (out), 20 ~{WR} (in), 21 WR (in), 22 VSS (power), 23 NC, 24 ~{RD} (in), 25 RD (in), 26 DDIS (out), 27 ~{TXRDY} (out), 28 ~{ADS} (in), 29 A2 (in), 30 A1 (in), 31 A0 (in), 32 ~{RXRDY} (out), 33 INTR (out), 34 NC, 35 ~{OUT2} (out), 36 ~{RTS} (out), 37 ~{DTR} (out), 38 ~{OUT1} (out), 39 MR (in), 40 ~{CTS} (in), 41 ~{DSR} (in), 42 ~{DCD} (in), 43 ~{RI} (in), 44 VDD (power)

## PC16550DV/NOPB
designator U?
Universal Asynchronous Receiver/Transmitter with FIFO's, 44-pin PLCC, Pb-Free; PartNumber: PC16550DV/NOPB; Manufacturer: National Semiconductor; PackageTopMarking: NSUZXYYTTE#*PC16550DV*PATENTED; PowerWise: N; CompType: Interface IC; High-Reliability: Y; DatasheetVersion: Jun-1995; PackageVersion: revK, Dec-1993; PackageReference: V44A; PackageDescription: Plastic Chip Carrier, Sq, .050in Pitch, 44 Lead; RoHS: Y; PinCount: 44; Code_IPC: PLCC-44; ComponentLink1Description: Manufacturer URL; ComponentLink1URL: http://www.national.com/; ComponentLink2Description: PC16550D Datasheet; ComponentLink2URL: http://www.national.com/ds/PC/PC16550D.pdf; ComponentLink3Description: PC16550D Web Page; ComponentLink3URL: http://www.national.com/pf/PC/PC16550D.html; ComponentLink4Description: V44A Package Page; ComponentLink4URL: http://www.national.com/packaging/folders/v44a.html
footprint V44A_N (Leaded Chip Carrier, 44-Leads, Body 16.6x16.6mm, Pitch 1.27mm, IPC Medium Density)
footprint V44A_L (Leaded Chip Carrier, 44-Leads, Body 16.6x16.6mm, Pitch 1.27mm, IPC High Density)
footprint V44A_M (Leaded Chip Carrier, 44-Leads, Body 16.6x16.6mm, Pitch 1.27mm, IPC Low Density)
pins: 1 NC, 2 D0 (in), 3 D1 (in), 4 D2 (in), 5 D3 (in), 6 D4 (in), 7 D5 (in), 8 D6 (in), 9 D7 (in), 10 RCLK (in), 11 SIN (in), 12 NC, 13 SOUT (out), 14 CS0 (in), 15 CS1 (in), 16 ~{CS2} (in), 17 ~{BAUDOUT} (out), 18 XIN (in), 19 XOUT (out), 20 ~{WR} (in), 21 WR (in), 22 VSS (power), 23 NC, 24 ~{RD} (in), 25 RD (in), 26 DDIS (out), 27 ~{TXRDY} (out), 28 ~{ADS} (in), 29 A2 (in), 30 A1 (in), 31 A0 (in), 32 ~{RXRDY} (out), 33 INTR (out), 34 NC, 35 ~{OUT2} (out), 36 ~{RTS} (out), 37 ~{DTR} (out), 38 ~{OUT1} (out), 39 MR (in), 40 ~{CTS} (in), 41 ~{DSR} (in), 42 ~{DCD} (in), 43 ~{RI} (in), 44 VDD (power)

## PC16550DVX
designator U?
Universal Asynchronous Receiver/Transmitter with FIFO's, 44-pin PLCC; PartNumber: PC16550DVX; Manufacturer: National Semiconductor; PackageTopMarking: NSUZXYYTTE#*PC16550DV*PATENTED; PowerWise: N; CompType: Interface IC; High-Reliability: Y; DatasheetVersion: Jun-1995; PackageVersion: revK, Dec-1993; PackageReference: V44A; PackageDescription: Plastic Chip Carrier, Sq, .050in Pitch, 44 Lead; RoHS: N; PinCount: 44; Code_IPC: PLCC-44; ComponentLink1Description: Manufacturer URL; ComponentLink1URL: http://www.national.com/; ComponentLink2Description: PC16550D Datasheet; ComponentLink2URL: http://www.national.com/ds/PC/PC16550D.pdf; ComponentLink3Description: PC16550D Web Page; ComponentLink3URL: http://www.national.com/pf/PC/PC16550D.html; ComponentLink4Description: V44A Package Page; ComponentLink4URL: http://www.national.com/packaging/folders/v44a.html
footprint V44A_N (Leaded Chip Carrier, 44-Leads, Body 16.6x16.6mm, Pitch 1.27mm, IPC Medium Density)
footprint V44A_L (Leaded Chip Carrier, 44-Leads, Body 16.6x16.6mm, Pitch 1.27mm, IPC High Density)
footprint V44A_M (Leaded Chip Carrier, 44-Leads, Body 16.6x16.6mm, Pitch 1.27mm, IPC Low Density)
pins: 1 NC, 2 D0 (in), 3 D1 (in), 4 D2 (in), 5 D3 (in), 6 D4 (in), 7 D5 (in), 8 D6 (in), 9 D7 (in), 10 RCLK (in), 11 SIN (in), 12 NC, 13 SOUT (out), 14 CS0 (in), 15 CS1 (in), 16 ~{CS2} (in), 17 ~{BAUDOUT} (out), 18 XIN (in), 19 XOUT (out), 20 ~{WR} (in), 21 WR (in), 22 VSS (power), 23 NC, 24 ~{RD} (in), 25 RD (in), 26 DDIS (out), 27 ~{TXRDY} (out), 28 ~{ADS} (in), 29 A2 (in), 30 A1 (in), 31 A0 (in), 32 ~{RXRDY} (out), 33 INTR (out), 34 NC, 35 ~{OUT2} (out), 36 ~{RTS} (out), 37 ~{DTR} (out), 38 ~{OUT1} (out), 39 MR (in), 40 ~{CTS} (in), 41 ~{DSR} (in), 42 ~{DCD} (in), 43 ~{RI} (in), 44 VDD (power)

## PC16552DV
designator U?
Dual Universal Asynchronous Receiver/Transmitter with FIFO's, 44-pin PLCC; PartNumber: PC16552DV; Manufacturer: National Semiconductor; PackageTopMarking: NSUZXYYTTE#*PC16552DV; PowerWise: N; CompType: Interface IC; High-Reliability: Y; DatasheetVersion: Jun-1995; PackageVersion: revK, Dec-1993; PackageReference: V44A; PackageDescription: Plastic Chip Carrier, Sq, .050in Pitch, 44 Lead; RoHS: N; PinCount: 44; Code_IPC: PLCC-44; ComponentLink1Description: Manufacturer URL; ComponentLink1URL: http://www.national.com/; ComponentLink2Description: PC16552D Datasheet; ComponentLink2URL: http://www.national.com/ds/PC/PC16552D.pdf; ComponentLink3Description: PC16552D Web Page; ComponentLink3URL: http://www.national.com/pf/PC/PC16552D.html; ComponentLink4Description: V44A Package Page; ComponentLink4URL: http://www.national.com/packaging/folders/v44a.html
footprint V44A_N (Leaded Chip Carrier, 44-Leads, Body 16.6x16.6mm, Pitch 1.27mm, IPC Medium Density)
footprint V44A_L (Leaded Chip Carrier, 44-Leads, Body 16.6x16.6mm, Pitch 1.27mm, IPC High Density)
footprint V44A_M (Leaded Chip Carrier, 44-Leads, Body 16.6x16.6mm, Pitch 1.27mm, IPC Low Density)
pins: 1 ~{TXRDY1} (out), 2 D0 (in), 3 D1 (in), 4 D2 (in), 5 D3 (in), 6 D4 (in), 7 D5 (in), 8 D6 (in), 9 D7 (in), 10 A0 (in), 11 XIN (in), 12 VSS (power), 13 XOUT (out), 14 A1 (in), 15 A2 (in), 16 CHSL (in), 17 INTR2 (out), 18 ~{CS} (in), 19 ~{MF2} (out), 20 ~{WR} (in), 21 MR (in), 22 VSS (power), 23 ~{RTS2} (out), 24 ~{RD} (in), 25 SIN2 (in), 26 SOUT2 (out), 27 ~{DTR2} (out), 28 ~{CTS2} (in), 29 ~{DSR2} (in), 30 ~{DCD2} (in), 31 ~{RI2} (in), 32 ~{TXRDY2} (out), 33 VDD (power), 34 INTR1 (out), 35 ~{MF1} (out), 36 ~{RTS1} (out), 37 ~{DTR1} (out), 38 SOUT1 (out), 39 SIN1 (in), 40 ~{CTS1} (in), 41 ~{DSR1} (in), 42 ~{DCD1} (in), 43 ~{RI1} (in), 44 VDD (power)

## PC16552DV/NOPB
designator U?
Dual Universal Asynchronous Receiver/Transmitter with FIFO's, 44-pin PLCC, Pb-Free; PartNumber: PC16552DV/NOPB; Manufacturer: National Semiconductor; PackageTopMarking: NSUZXYYTTE#*PC16552DV; PowerWise: N; CompType: Interface IC; High-Reliability: Y; DatasheetVersion: Jun-1995; PackageVersion: revK, Dec-1993; PackageReference: V44A; PackageDescription: Plastic Chip Carrier, Sq, .050in Pitch, 44 Lead; RoHS: Y; PinCount: 44; Code_IPC: PLCC-44; ComponentLink1Description: Manufacturer URL; ComponentLink1URL: http://www.national.com/; ComponentLink2Description: PC16552D Datasheet; ComponentLink2URL: http://www.national.com/ds/PC/PC16552D.pdf; ComponentLink3Description: PC16552D Web Page; ComponentLink3URL: http://www.national.com/pf/PC/PC16552D.html; ComponentLink4Description: V44A Package Page; ComponentLink4URL: http://www.national.com/packaging/folders/v44a.html
footprint V44A_N (Leaded Chip Carrier, 44-Leads, Body 16.6x16.6mm, Pitch 1.27mm, IPC Medium Density)
footprint V44A_L (Leaded Chip Carrier, 44-Leads, Body 16.6x16.6mm, Pitch 1.27mm, IPC High Density)
footprint V44A_M (Leaded Chip Carrier, 44-Leads, Body 16.6x16.6mm, Pitch 1.27mm, IPC Low Density)
pins: 1 ~{TXRDY1} (out), 2 D0 (in), 3 D1 (in), 4 D2 (in), 5 D3 (in), 6 D4 (in), 7 D5 (in), 8 D6 (in), 9 D7 (in), 10 A0 (in), 11 XIN (in), 12 VSS (power), 13 XOUT (out), 14 A1 (in), 15 A2 (in), 16 CHSL (in), 17 INTR2 (out), 18 ~{CS} (in), 19 ~{MF2} (out), 20 ~{WR} (in), 21 MR (in), 22 VSS (power), 23 ~{RTS2} (out), 24 ~{RD} (in), 25 SIN2 (in), 26 SOUT2 (out), 27 ~{DTR2} (out), 28 ~{CTS2} (in), 29 ~{DSR2} (in), 30 ~{DCD2} (in), 31 ~{RI2} (in), 32 ~{TXRDY2} (out), 33 VDD (power), 34 INTR1 (out), 35 ~{MF1} (out), 36 ~{RTS1} (out), 37 ~{DTR1} (out), 38 SOUT1 (out), 39 SIN1 (in), 40 ~{CTS1} (in), 41 ~{DSR1} (in), 42 ~{DCD1} (in), 43 ~{RI1} (in), 44 VDD (power)

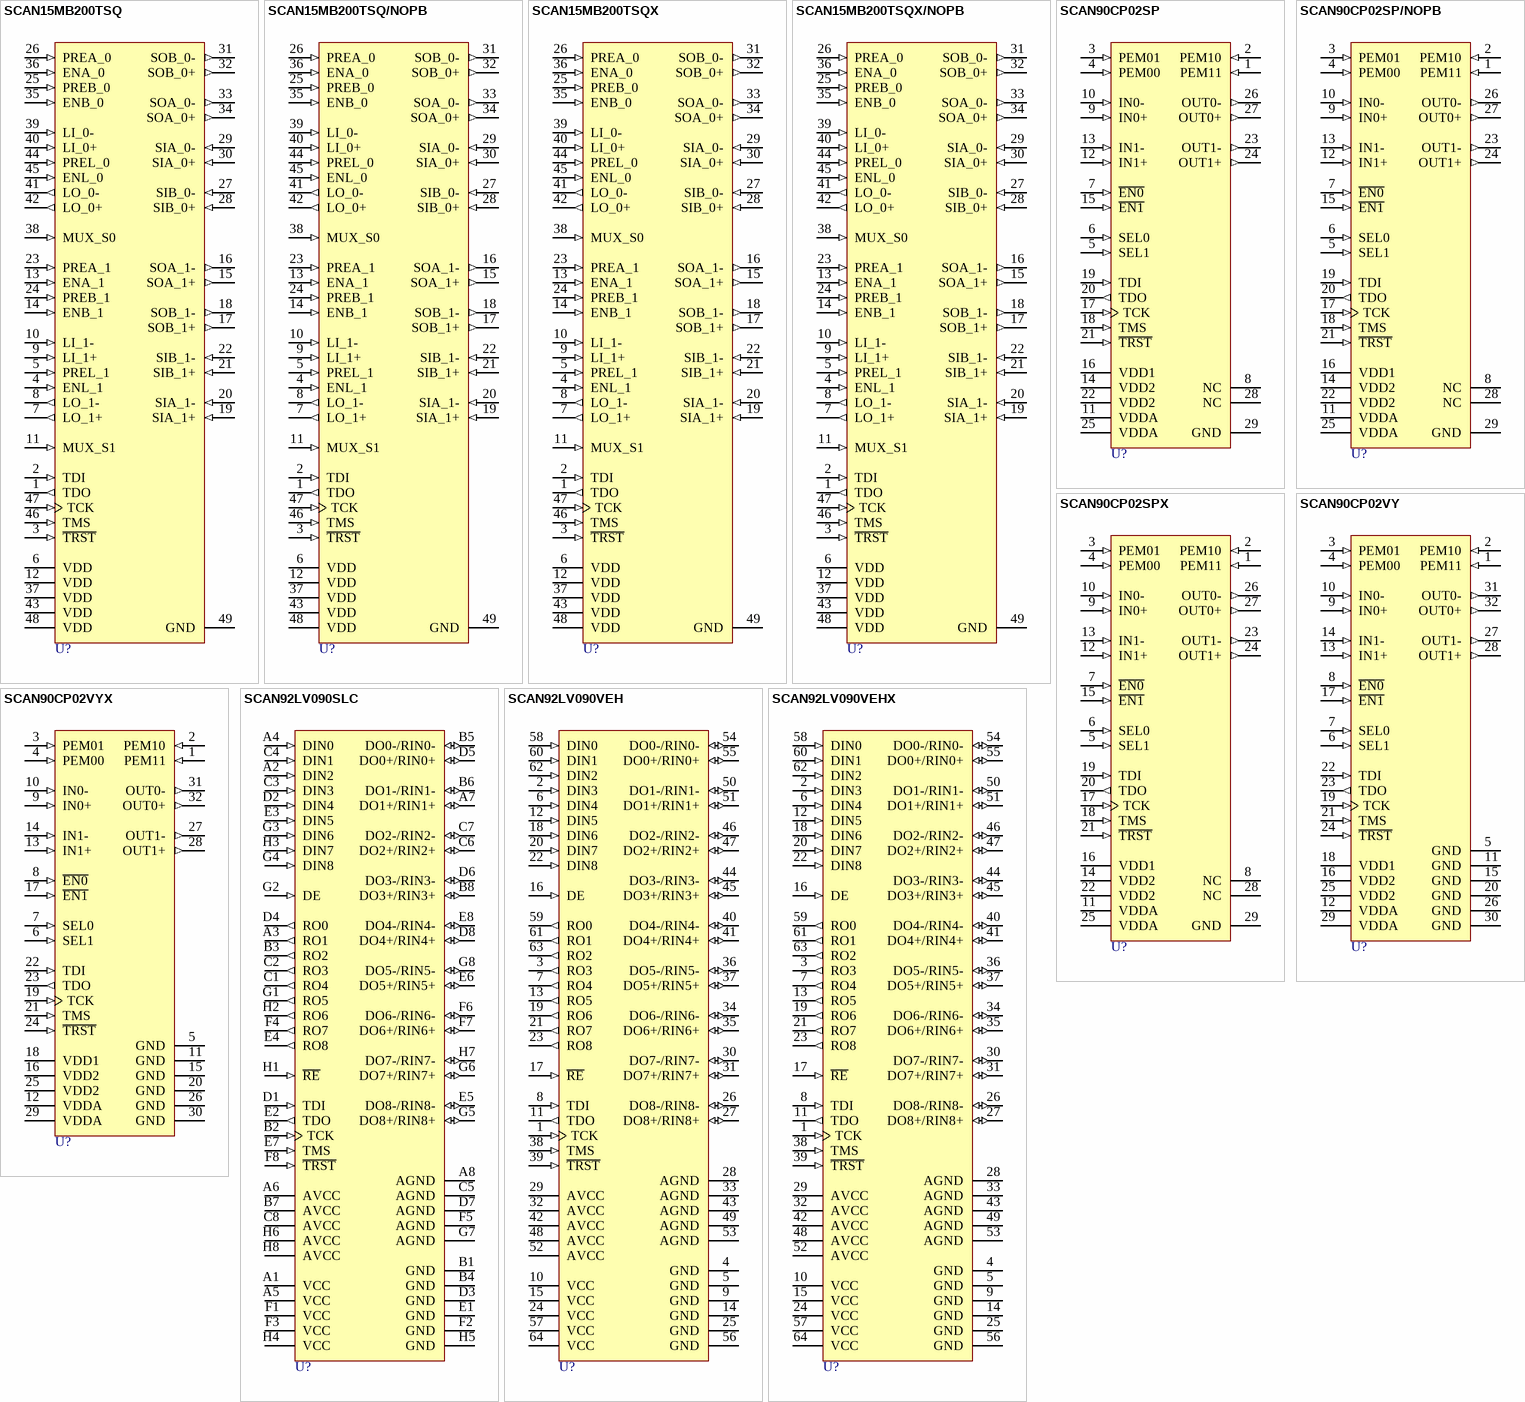
[diagram p112: symbols SCAN15MB200TSQ to SCAN92LV090VEHX]

## SCAN15MB200TSQ
designator U?
Dual 1.5 Gbps 2:1/1:2 LVDS Mux/Buffer with Pre-Emphasis and IEEE 1149.6, 48-pin LLP; PartNumber: SCAN15MB200TSQ; Manufacturer: National Semiconductor; PackageTopMarking: NS*UZXYTTE#*15MB200; PowerWise: N; CompType: Interface IC; High-Reliability: Y; DatasheetVersion: May-2006; PackageVersion: revB, May-2009; PackageReference: SQA48A; PackageDescription: LLP, Plastic, Quad, 7 x 7 x 0.8mm Body, 48 Lead, 0.5mm Pitch, No Pullback; RoHS: N; PinCount: 48; Code_JEDEC: MO-220-WKKD-2; ComponentLink1Description: Manufacturer URL; ComponentLink1URL: http://www.national.com/; ComponentLink2Description: SCAN15MB200 Datasheet; ComponentLink2URL: http://www.national.com/ds/SC/SCAN15MB200.pdf; ComponentLink3Description: SCAN15MB200 Web Page; ComponentLink3URL: http://www.national.com/pf/SC/SCAN15MB200.html; ComponentLink4Description: SQA48A Package Page; ComponentLink4URL: http://www.national.com/packaging/folders/sqa48a.html
footprint SQA48A (QFN, 48-Leads, Body 7x7mm, Pitch 0.5mm, Thermal Pad 5.2x5.2mm, NSC Recommended)
pins: 1 TDO (out), 2 TDI (in), 3 ~{TRST} (in), 4 ENL_1 (in), 5 PREL_1 (in), 6 VDD (power), 7 LO_1+ (out), 8 LO_1- (out), 9 LI_1+ (in), 10 LI_1- (in), 11 MUX_S1 (in), 12 VDD (power), 13 ENA_1 (in), 14 ENB_1 (in), 15 SOA_1+ (out), 16 SOA_1- (out), 17 SOB_1+ (out), 18 SOB_1- (out), 19 SIA_1+ (in), 20 SIA_1- (in), 21 SIB_1+ (in), 22 SIB_1- (in), 23 PREA_1 (in), 24 PREB_1 (in), 25 PREB_0 (in), 26 PREA_0 (in), 27 SIB_0- (in), 28 SIB_0+ (in), 29 SIA_0- (in), 30 SIA_0+ (in), 31 SOB_0- (out), 32 SOB_0+ (out), 33 SOA_0- (out), 34 SOA_0+ (out), 35 ENB_0 (in), 36 ENA_0 (in), 37 VDD (power), 38 MUX_S0 (in), 39 LI_0- (in), 40 LI_0+ (in), 41 LO_0- (out), 42 LO_0+ (out), 43 VDD (power), 44 PREL_0 (in), 45 ENL_0 (in), 46 TMS (in), 47 TCK (in), 48 VDD (power), 49 GND (power)

## SCAN15MB200TSQ/NOPB
designator U?
Dual 1.5 Gbps 2:1/1:2 LVDS Mux/Buffer with Pre-Emphasis and IEEE 1149.6, 48-pin LLP, Pb-Free; PartNumber: SCAN15MB200TSQ/NOPB; Manufacturer: National Semiconductor; PackageTopMarking: NS*UZXYTTE#*15MB200; PowerWise: N; CompType: Interface IC; High-Reliability: Y; DatasheetVersion: May-2006; PackageVersion: revB, May-2009; PackageReference: SQA48A; PackageDescription: LLP, Plastic, Quad, 7 x 7 x 0.8mm Body, 48 Lead, 0.5mm Pitch, No Pullback; RoHS: Y; PinCount: 48; Code_JEDEC: MO-220-WKKD-2; ComponentLink1Description: Manufacturer URL; ComponentLink1URL: http://www.national.com/; ComponentLink2Description: SCAN15MB200 Datasheet; ComponentLink2URL: http://www.national.com/ds/SC/SCAN15MB200.pdf; ComponentLink3Description: SCAN15MB200 Web Page; ComponentLink3URL: http://www.national.com/pf/SC/SCAN15MB200.html; ComponentLink4Description: SQA48A Package Page; ComponentLink4URL: http://www.national.com/packaging/folders/sqa48a.html
footprint SQA48A (QFN, 48-Leads, Body 7x7mm, Pitch 0.5mm, Thermal Pad 5.2x5.2mm, NSC Recommended)
pins: 1 TDO (out), 2 TDI (in), 3 ~{TRST} (in), 4 ENL_1 (in), 5 PREL_1 (in), 6 VDD (power), 7 LO_1+ (out), 8 LO_1- (out), 9 LI_1+ (in), 10 LI_1- (in), 11 MUX_S1 (in), 12 VDD (power), 13 ENA_1 (in), 14 ENB_1 (in), 15 SOA_1+ (out), 16 SOA_1- (out), 17 SOB_1+ (out), 18 SOB_1- (out), 19 SIA_1+ (in), 20 SIA_1- (in), 21 SIB_1+ (in), 22 SIB_1- (in), 23 PREA_1 (in), 24 PREB_1 (in), 25 PREB_0 (in), 26 PREA_0 (in), 27 SIB_0- (in), 28 SIB_0+ (in), 29 SIA_0- (in), 30 SIA_0+ (in), 31 SOB_0- (out), 32 SOB_0+ (out), 33 SOA_0- (out), 34 SOA_0+ (out), 35 ENB_0 (in), 36 ENA_0 (in), 37 VDD (power), 38 MUX_S0 (in), 39 LI_0- (in), 40 LI_0+ (in), 41 LO_0- (out), 42 LO_0+ (out), 43 VDD (power), 44 PREL_0 (in), 45 ENL_0 (in), 46 TMS (in), 47 TCK (in), 48 VDD (power), 49 GND (power)

## SCAN15MB200TSQX
designator U?
Dual 1.5 Gbps 2:1/1:2 LVDS Mux/Buffer with Pre-Emphasis and IEEE 1149.6, 48-pin LLP; PartNumber: SCAN15MB200TSQX; Manufacturer: National Semiconductor; PackageTopMarking: NS*UZXYTT*15MB200; PowerWise: N; CompType: Interface IC; High-Reliability: Y; DatasheetVersion: May-2006; PackageVersion: revB, May-2009; PackageReference: SQA48A; PackageDescription: LLP, Plastic, Quad, 7 x 7 x 0.8mm Body, 48 Lead, 0.5mm Pitch, No Pullback; RoHS: N; PinCount: 48; Code_JEDEC: MO-220-WKKD-2; ComponentLink1Description: Manufacturer URL; ComponentLink1URL: http://www.national.com/; ComponentLink2Description: SCAN15MB200 Datasheet; ComponentLink2URL: http://www.national.com/ds/SC/SCAN15MB200.pdf; ComponentLink3Description: SCAN15MB200 Web Page; ComponentLink3URL: http://www.national.com/pf/SC/SCAN15MB200.html; ComponentLink4Description: SQA48A Package Page; ComponentLink4URL: http://www.national.com/packaging/folders/sqa48a.html
footprint SQA48A (QFN, 48-Leads, Body 7x7mm, Pitch 0.5mm, Thermal Pad 5.2x5.2mm, NSC Recommended)
pins: 1 TDO (out), 2 TDI (in), 3 ~{TRST} (in), 4 ENL_1 (in), 5 PREL_1 (in), 6 VDD (power), 7 LO_1+ (out), 8 LO_1- (out), 9 LI_1+ (in), 10 LI_1- (in), 11 MUX_S1 (in), 12 VDD (power), 13 ENA_1 (in), 14 ENB_1 (in), 15 SOA_1+ (out), 16 SOA_1- (out), 17 SOB_1+ (out), 18 SOB_1- (out), 19 SIA_1+ (in), 20 SIA_1- (in), 21 SIB_1+ (in), 22 SIB_1- (in), 23 PREA_1 (in), 24 PREB_1 (in), 25 PREB_0 (in), 26 PREA_0 (in), 27 SIB_0- (in), 28 SIB_0+ (in), 29 SIA_0- (in), 30 SIA_0+ (in), 31 SOB_0- (out), 32 SOB_0+ (out), 33 SOA_0- (out), 34 SOA_0+ (out), 35 ENB_0 (in), 36 ENA_0 (in), 37 VDD (power), 38 MUX_S0 (in), 39 LI_0- (in), 40 LI_0+ (in), 41 LO_0- (out), 42 LO_0+ (out), 43 VDD (power), 44 PREL_0 (in), 45 ENL_0 (in), 46 TMS (in), 47 TCK (in), 48 VDD (power), 49 GND (power)

## SCAN15MB200TSQX/NOPB
designator U?
Dual 1.5 Gbps 2:1/1:2 LVDS Mux/Buffer with Pre-Emphasis and IEEE 1149.6, 48-pin LLP, Pb-Free; PartNumber: SCAN15MB200TSQX/NOPB; Manufacturer: National Semiconductor; PackageTopMarking: NS*UZXYTT*15MB200; PowerWise: N; CompType: Interface IC; High-Reliability: Y; DatasheetVersion: May-2006; PackageVersion: revB, May-2009; PackageReference: SQA48A; PackageDescription: LLP, Plastic, Quad, 7 x 7 x 0.8mm Body, 48 Lead, 0.5mm Pitch, No Pullback; RoHS: Y; PinCount: 48; Code_JEDEC: MO-220-WKKD-2; ComponentLink1Description: Manufacturer URL; ComponentLink1URL: http://www.national.com/; ComponentLink2Description: SCAN15MB200 Datasheet; ComponentLink2URL: http://www.national.com/ds/SC/SCAN15MB200.pdf; ComponentLink3Description: SCAN15MB200 Web Page; ComponentLink3URL: http://www.national.com/pf/SC/SCAN15MB200.html; ComponentLink4Description: SQA48A Package Page; ComponentLink4URL: http://www.national.com/packaging/folders/sqa48a.html
footprint SQA48A (QFN, 48-Leads, Body 7x7mm, Pitch 0.5mm, Thermal Pad 5.2x5.2mm, NSC Recommended)
pins: 1 TDO (out), 2 TDI (in), 3 ~{TRST} (in), 4 ENL_1 (in), 5 PREL_1 (in), 6 VDD (power), 7 LO_1+ (out), 8 LO_1- (out), 9 LI_1+ (in), 10 LI_1- (in), 11 MUX_S1 (in), 12 VDD (power), 13 ENA_1 (in), 14 ENB_1 (in), 15 SOA_1+ (out), 16 SOA_1- (out), 17 SOB_1+ (out), 18 SOB_1- (out), 19 SIA_1+ (in), 20 SIA_1- (in), 21 SIB_1+ (in), 22 SIB_1- (in), 23 PREA_1 (in), 24 PREB_1 (in), 25 PREB_0 (in), 26 PREA_0 (in), 27 SIB_0- (in), 28 SIB_0+ (in), 29 SIA_0- (in), 30 SIA_0+ (in), 31 SOB_0- (out), 32 SOB_0+ (out), 33 SOA_0- (out), 34 SOA_0+ (out), 35 ENB_0 (in), 36 ENA_0 (in), 37 VDD (power), 38 MUX_S0 (in), 39 LI_0- (in), 40 LI_0+ (in), 41 LO_0- (out), 42 LO_0+ (out), 43 VDD (power), 44 PREL_0 (in), 45 ENL_0 (in), 46 TMS (in), 47 TCK (in), 48 VDD (power), 49 GND (power)

## SCAN90CP02SP
designator U?
1.5 Gbps 2x2 LVDS Crosspoint Switch with Pre-Emphasis and IEEE 1149.6, 28-pin LLP; PartNumber: SCAN90CP02SP; Manufacturer: National Semiconductor; PackageTopMarking: NS*UZXYTT*SCP02SP; PowerWise: N; CompType: Interface IC; High-Reliability: Y; DatasheetVersion: Mar-2009; PackageVersion: revA, Aug-2003; PackageReference: SPA28A; PackageDescription: LLP, Plastic, Quad, 5 x 5 x 0.6mm Body, 28 Lead, 0.5mm Pitch, No Pullback; RoHS: Y; PinCount: 28; Code_JEDEC: MO-220-WHHD-3; ComponentLink1Description: Manufacturer URL; ComponentLink1URL: http://www.national.com/; ComponentLink2Description: SCAN90CP02 Datasheet; ComponentLink2URL: http://www.national.com/ds/SC/SCAN90CP02.pdf; ComponentLink3Description: SCAN90CP02 Web Page; ComponentLink3URL: http://www.national.com/pf/SC/SCAN90CP02.html; ComponentLink4Description: SPA28A Package Page; ComponentLink4URL: http://www.national.com/packaging/folders/spa28a.html
footprint SPA28A (QFN, 28-Leads, Body 5x5mm, Pitch 0.5mm, Thermal Pad 3.7x3.7mm, NSC Recommended)
pins: 1 PEM11 (in), 2 PEM10 (in), 3 PEM01 (in), 4 PEM00 (in), 5 SEL1 (in), 6 SEL0 (in), 7 ~{EN0} (in), 8 NC, 9 IN0+ (in), 10 IN0- (in), 11 VDDA (power), 12 IN1+ (in), 13 IN1- (in), 14 VDD2 (power), 15 ~{EN1} (in), 16 VDD1 (power), 17 TCK (in), 18 TMS (in), 19 TDI (in), 20 TDO (out), 21 ~{TRST} (in), 22 VDD2 (power), 23 OUT1- (out), 24 OUT1+ (out), 25 VDDA (power), 26 OUT0- (out), 27 OUT0+ (out), 28 NC, 29 GND (power)

## SCAN90CP02SP/NOPB
designator U?
1.5 Gbps 2x2 LVDS Crosspoint Switch with Pre-Emphasis and IEEE 1149.6, 28-pin LLP, Pb-Free; PartNumber: SCAN90CP02SP/NOPB; Manufacturer: National Semiconductor; PackageTopMarking: NS*UZXYTT*SCP02SP; PowerWise: N; CompType: Interface IC; High-Reliability: Y; DatasheetVersion: Mar-2009; PackageVersion: revA, Aug-2003; PackageReference: SPA28A; PackageDescription: LLP, Plastic, Quad, 5 x 5 x 0.6mm Body, 28 Lead, 0.5mm Pitch, No Pullback; RoHS: Y; PinCount: 28; Code_JEDEC: MO-220-WHHD-3; ComponentLink1Description: Manufacturer URL; ComponentLink1URL: http://www.national.com/; ComponentLink2Description: SCAN90CP02 Datasheet; ComponentLink2URL: http://www.national.com/ds/SC/SCAN90CP02.pdf; ComponentLink3Description: SCAN90CP02 Web Page; ComponentLink3URL: http://www.national.com/pf/SC/SCAN90CP02.html; ComponentLink4Description: SPA28A Package Page; ComponentLink4URL: http://www.national.com/packaging/folders/spa28a.html
footprint SPA28A (QFN, 28-Leads, Body 5x5mm, Pitch 0.5mm, Thermal Pad 3.7x3.7mm, NSC Recommended)
pins: 1 PEM11 (in), 2 PEM10 (in), 3 PEM01 (in), 4 PEM00 (in), 5 SEL1 (in), 6 SEL0 (in), 7 ~{EN0} (in), 8 NC, 9 IN0+ (in), 10 IN0- (in), 11 VDDA (power), 12 IN1+ (in), 13 IN1- (in), 14 VDD2 (power), 15 ~{EN1} (in), 16 VDD1 (power), 17 TCK (in), 18 TMS (in), 19 TDI (in), 20 TDO (out), 21 ~{TRST} (in), 22 VDD2 (power), 23 OUT1- (out), 24 OUT1+ (out), 25 VDDA (power), 26 OUT0- (out), 27 OUT0+ (out), 28 NC, 29 GND (power)